# Altium footprint library CN_USB_AB_mini.PcbLib: 1 footprints
Each footprint in its own frame and in the unit in brackets; x right, y up, seen from the top. Pads: shape width x height; smd on the part's side, far side on the other; paste and mask are expansions set on the pad; w line width, h text height; cw(c..) or ccw(c..) is an arc to the next point about the centre after c.
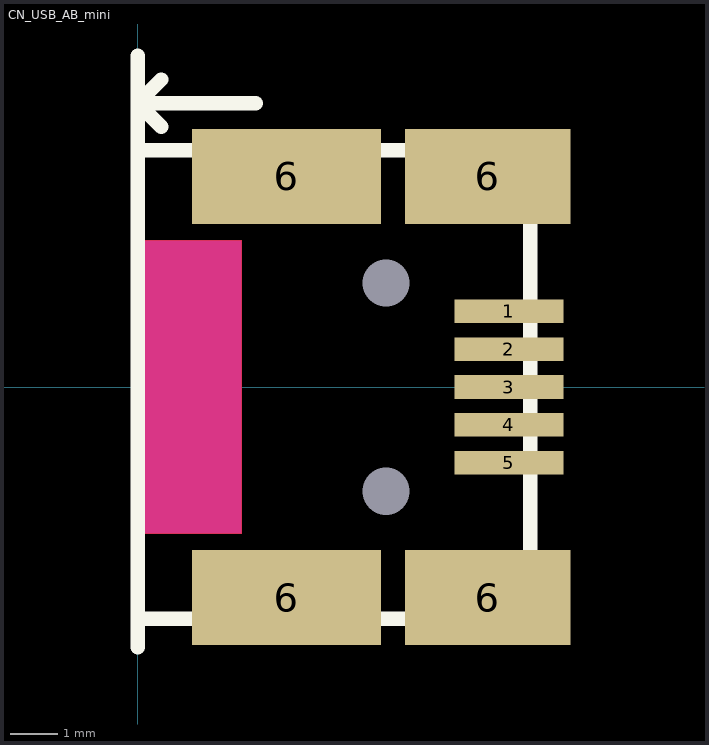
[diagram p0: the footprint, top view; thin cyan lines are the x and y axes]

## CN_USB_AB_mini [mm] "Mini AB connector"
pads (11):
  rect 2.3x0.5 smd: 1(7.85,1.6) 2(7.85,0.8) 3(7.85,0) 4(7.85,-0.8) 5(7.85,-1.6)
  rect 4x2 smd mask+0.102: 6(3.15,-4.45)
  rect 4x2 smd: 6(3.15,4.45)
  rect 3.5x2 smd: 6(7.4,-4.45) 6(7.4,4.45)
  round 0.9 hole 1: ""(5.25,-2.2) ""(5.25,2.2)
Top Layer:
  pour cut-out: 0,3.1 2.2,3.1 2.2,-3.1 0,-3.1
Top Layer keep-out:
  rectangle: 0,-3.1 2.2,3.1
Top Overlay:
  lines w0.305: 0,-5.5 0,7 ; 0,-4.9 8.3,-4.9 8.3,5 0,5 ; 0.5,5.5 0,6 ; 0.5,6.5 0,6 ; 2.5,6 0,6
3D body: height 4, standoff -0.95, extent -0.65,-4.95 8.35,4.95